# Altium footprint library CC1101-20P.PcbLib: 1 footprints
Each footprint in its own frame and in the unit in brackets; x right, y up, seen from the top. Pads: shape width x height; smd on the part's side, far side on the other; paste and mask are expansions set on the pad; w line width, h text height; cw(c..) or ccw(c..) is an arc to the next point about the centre after c.
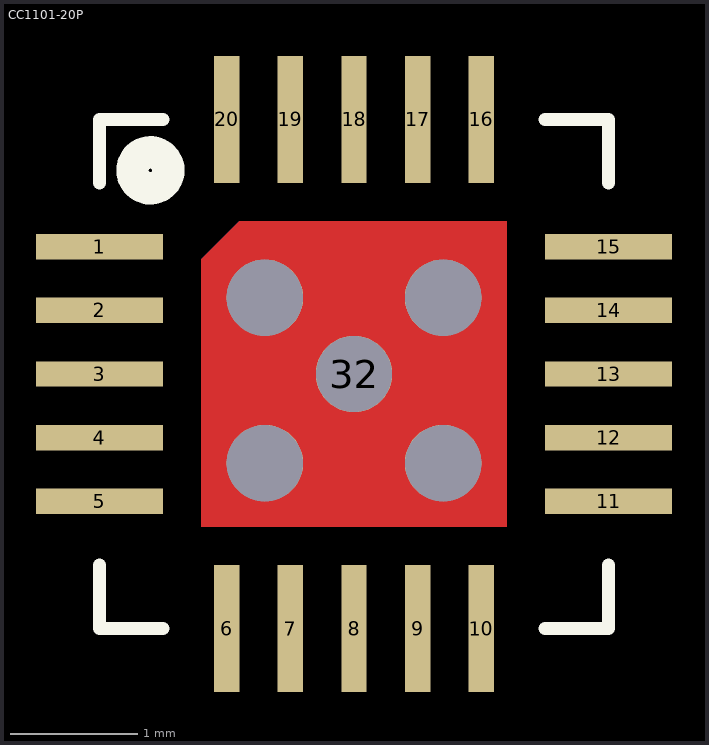
[diagram p0: the footprint, top view; thin cyan lines are the x and y axes]

## CC1101-20P [mm] "CC1101/RF/TI"
height 10
pads (25):
  rect 1x0.2 smd: 1(5,-14) 2(5,-14.5) 3(5,-15) 4(5,-15.5) 5(5,-16) 11(9,-16) 12(9,-15.5) 13(9,-15) 14(9,-14.5) 15(9,-14)
  rect 0.2x1 smd: 6(6,-17) 7(6.5,-17) 8(7,-17) 9(7.5,-17) 10(8,-17) 16(8,-13) 17(7.5,-13) 18(7,-13) 19(6.5,-13) 20(6,-13)
  round 0.6 hole 0.6: 32(7,-15) ""(6.3,-15.7) ""(6.3,-14.4) ""(7.7,-15.7) ""(7.7,-14.4)
Top Layer:
  region: 6.1,-13.8 5.8,-14.1 5.8,-16.2 8.2,-16.2 8.2,-13.8
Bottom Layer:
  region: 6.1,-13.8 5.8,-14.1 5.8,-16.2 8.2,-16.2 8.2,-13.8
Top Overlay:
  circle w0.254: c5.4,-13.4 r0.141
  lines w0.1: 5,-16.5 5,-17 5.5,-17 ; 5,-13.5 5,-13 5.5,-13 ; 8.5,-17 9,-17 9,-16.5 ; 8.5,-13 9,-13 9,-13.5